# Altium integrated library Texas Instruments Power Management PWM Controller.IntLib: 1227 symbols (part 15 of 49)
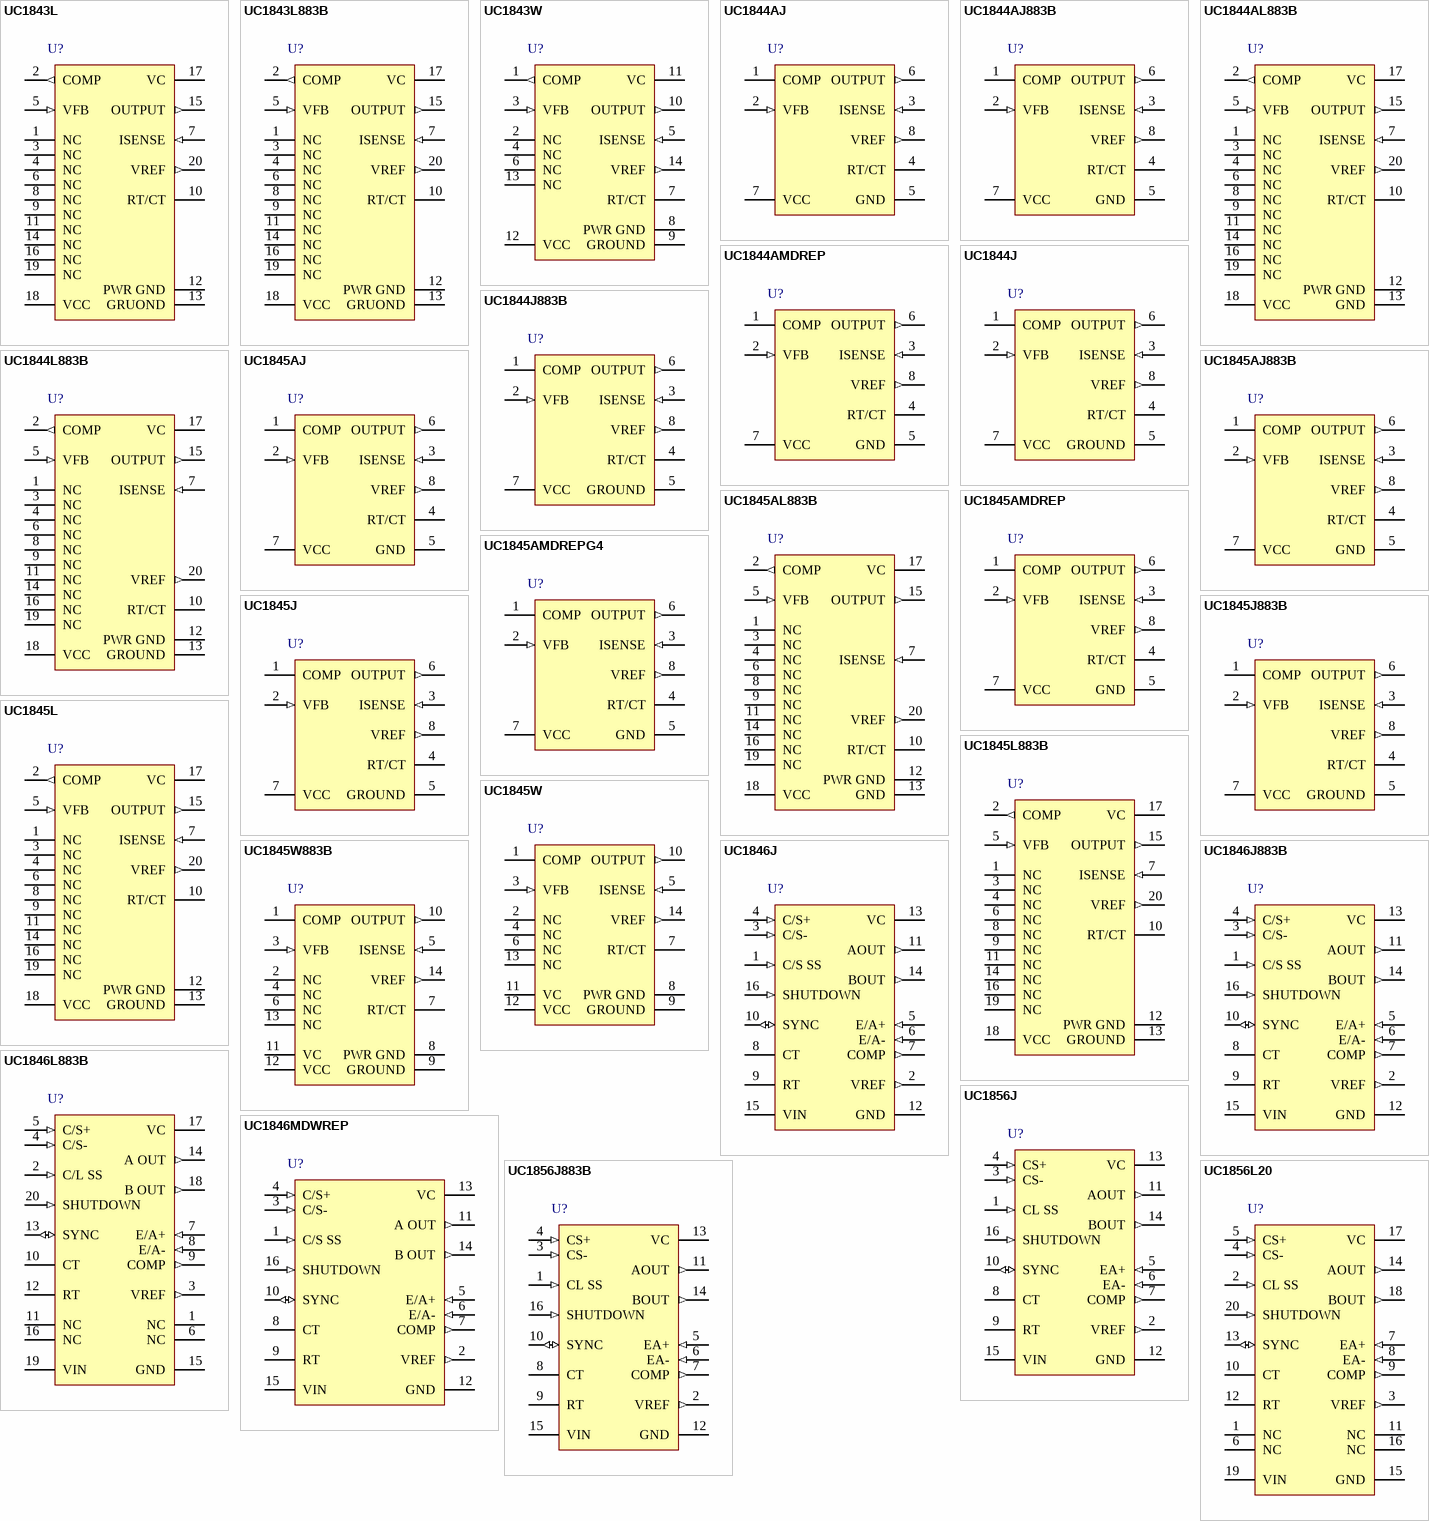
[diagram p57: symbols UC1843L to UC1856L20]

## UC1845W
designator U?
PWM Controller with Current Control, 50 % Duty Cycle, -55 to +125 degC, 14-pin CFP (W); PartNumber: UC1845W; Manufacturer: Texas Instruments; Duty Cycle(Max)(%): 50; Eco-Plan: TBD; Frequency(Max)(kHz): 450; Rating: Military; Regulated Outputs(#): 1; Topology: Boost, Flyback, Forward; UVLO Thresholds On/Off(V): 8.4/7.6; DatasheetVersion: SLUS223C; PackageVersion: revD, Jul-2003; PackageReference: W14; PackageDescription: 14-Lead Ceramic Dual Flatpack, Body 9.9 x 6.6 mm (LxW max), Pitch 1.27 mm; Control Method: Current; SubFamily: PWM Controller; Mounting Technology: Surface Mount; Code_JEDEC: MO-092AB; ComponentLink1Description: Datasheet; ComponentLink1URL: http://www.ti.com/general/docs/lit/getliterature.tsp?genericPartNumber=UC1845&fileType=pdf
footprint W14 (DFP, 14 Leads, Body 9.2x6.3mm, Pitch 1.27mm, Gullwing Leadform)
pins: 1 COMP, 2 NC, 3 VFB (in), 4 NC, 5 ISENSE (in), 6 NC, 7 RT/CT, 8 PWR GND (power), 9 GROUND (power), 10 OUTPUT (out), 11 VC (power), 12 VCC (power), 13 NC, 14 VREF (out)

## UC1845W883B
designator U?
PWM Controller with Current Control, 50 % Duty Cycle, 14-pin CFP (W); PartNumber: UC1845W883B; Manufacturer: Texas Instruments; Duty Cycle(Max)(%): 50; Eco-Plan: TBD; Frequency(Max)(kHz): 450; Rating: Military; Regulated Outputs(#): 1; Topology: Boost, Flyback, Forward; UVLO Thresholds On/Off(V): 8.4/7.6; DatasheetVersion: SLUS223C; PackageVersion: revD, Jul-2003; PackageReference: W14; PackageDescription: 14-Lead Ceramic Dual Flatpack, Body 9.9 x 6.6 mm (LxW max), Pitch 1.27 mm; Control Method: Current; SubFamily: PWM Controller; Mounting Technology: Surface Mount; Code_JEDEC: MO-092AB; ComponentLink1Description: Datasheet; ComponentLink1URL: http://www.ti.com/general/docs/lit/getliterature.tsp?genericPartNumber=UC1845&fileType=pdf
footprint W14 (DFP, 14 Leads, Body 9.2x6.3mm, Pitch 1.27mm, Gullwing Leadform)
pins: 1 COMP, 2 NC, 3 VFB (in), 4 NC, 5 ISENSE (in), 6 NC, 7 RT/CT, 8 PWR GND (power), 9 GROUND (power), 10 OUTPUT (out), 11 VC (power), 12 VCC (power), 13 NC, 14 VREF (out)

## UC1846J
designator U?
PWM Controller with Current control, 50 % Duty Cycle, -55 to +125 degC, 16-pin CDIP (J); PartNumber: UC1846J; Manufacturer: Texas Instruments; Duty Cycle(Max)(%): 50; Eco-Plan: TBD; Frequency(Max)(kHz): 450; Rating: Military; Regulated Outputs(#): 2; Topology: Boost, Flyback, Forward, Full-Bridge, Half-Bridge, Push-Pull; UVLO Thresholds On/Off(V): 7.7/6.95; DatasheetVersion: SLUS352B; PackageVersion: revF, Mar-2003; PackageReference: J16; PackageDescription: 16-Pin, Ceramic Dual In-Line Package, Row Spacing 7.62 mm, Pitch 2.54 mm; Control Method: Current; SubFamily: PWM Controller; Mounting Technology: Through Hole; ComponentLink1Description: Datasheet; ComponentLink1URL: http://www.ti.com/general/docs/lit/getliterature.tsp?genericPartNumber=UC1846&fileType=pdf
footprint J16 (DIP, 16-Leads, Row Spacing 7.62mm, Pitch 2.54mm, Body 21.3x6.9mm)
pins: 1 C/S SS (in), 2 VREF (out), 3 C/S- (in), 4 C/S+ (in), 5 E/A+ (in), 6 E/A- (in), 7 COMP (out), 8 CT, 9 RT, 10 SYNC (io), 11 AOUT (out), 12 GND (power), 13 VC (power), 14 BOUT (out), 15 VIN (power), 16 SHUTDOWN (in)

## UC1846J883B
designator U?
PWM Controller with Current control, 50 % Duty Cycle, -55 to +125 degC, 16-pin CDIP (J); PartNumber: UC1846J883B; Manufacturer: Texas Instruments; Duty Cycle(Max)(%): 50; Eco-Plan: TBD; Frequency(Max)(kHz): 450; Rating: Military; Regulated Outputs(#): 2; Topology: Boost, Flyback, Forward, Full-Bridge, Half-Bridge, Push-Pull; UVLO Thresholds On/Off(V): 7.7/6.95; DatasheetVersion: SLUS352B; PackageVersion: revF, Mar-2003; PackageReference: J16; PackageDescription: 16-Pin, Ceramic Dual In-Line Package, Row Spacing 7.62 mm, Pitch 2.54 mm; Control Method: Current; SubFamily: PWM Controller; Mounting Technology: Through Hole; ComponentLink1Description: Datasheet; ComponentLink1URL: http://www.ti.com/general/docs/lit/getliterature.tsp?genericPartNumber=UC1846&fileType=pdf
footprint J16 (DIP, 16-Leads, Row Spacing 7.62mm, Pitch 2.54mm, Body 21.3x6.9mm)
pins: 1 C/S SS (in), 2 VREF (out), 3 C/S- (in), 4 C/S+ (in), 5 E/A+ (in), 6 E/A- (in), 7 COMP (out), 8 CT, 9 RT, 10 SYNC (io), 11 AOUT (out), 12 GND (power), 13 VC (power), 14 BOUT (out), 15 VIN (power), 16 SHUTDOWN (in)

## UC1846L883B
designator U?
PWM Controller with Current control, 50 % Duty Cycle, -55 to +125 degC, 20-pin LCCC (FK); PartNumber: UC1846L883B; Manufacturer: Texas Instruments; Duty Cycle(Max)(%): 50; Eco-Plan: TBD; Frequency(Max)(kHz): 450; Rating: Military; Regulated Outputs(#): 2; Topology: Boost. Flyback, Forward, Full-Bridge, Half-Bridge, Push-Pull; UVLO Thresholds On/Off(V): 7.7/6.95; DatasheetVersion: SLUS352B; PackageVersion: revD, Jan-2011; PackageReference: FK20; PackageDescription: 20-Pin Leadless Ceramic Chip Carrier, 1.27 mm Pitch; Control Method: Current; SubFamily: PWM Controller; Mounting Technology: Surface Mount; Code_JEDEC: MS-004; ComponentLink1Description: Datasheet; ComponentLink1URL: http://www.ti.com/general/docs/lit/getliterature.tsp?genericPartNumber=UC1846&fileType=pdf
footprint FK20_N (Leadless Chip Carrier, 20-Leads, Body 8.9x8.9mm, Pitch 1.27mm, IPC Medium Density)
footprint FK20_L (Leadless Chip Carrier, 20-Leads, Body 8.9x8.9mm, Pitch 1.27mm, IPC High Density)
footprint FK20_M (Leadless Chip Carrier, 20-Leads, Body 8.9x8.9mm, Pitch 1.27mm, IPC Low Density)
pins: 1 NC, 2 C/L SS (in), 3 VREF (out), 4 C/S- (in), 5 C/S+ (in), 6 NC, 7 E/A+ (in), 8 E/A- (in), 9 COMP (out), 10 CT, 11 NC, 12 RT, 13 SYNC (io), 14 A OUT (out), 15 GND (power), 16 NC, 17 VC (power), 18 B OUT (out), 19 VIN (power), 20 SHUTDOWN (in)

## UC1846MDWREP
designator U?
Current-Mode PWM Controller with Current Control, 50 % Duty Cycle, -55 to +125 degC, 16-pin SOIC (DW), Green (RoHS & no Sb/Br); PartNumber: UC1846MDWREP; Manufacturer: Texas Instruments; Duty Cycle(Max)(%): 50; Frequency(Max)(kHz): 450; Rating: HiRel Enhanced Product; Regulated Outputs(#): 2; Topology: Boost, Flyback, Forward, Full-Bridge, Half-Bridge, Push-Pull; DatasheetVersion: SGLS329; PackageVersion: revG, Jan-2011; PackageReference: DW16; PackageDescription: 16-Pin Small Outline Integrated Circuit, 10.3 x 7.5 mm, Pitch 1.27 mm Pitch; Supplier 1: Digi-Key; Supplier Part Number 1: 296-21291-2-ND; Supplier 2: Digi-Key; Supplier Part Number 2: 296-21291-1-ND; Supplier 3: Digi-Key; Supplier Part Number 3: 296-21291-6-ND; Supplier 4: Farnell; Supplier Part Number 4: 1755518; Supplier 5: Newark; Supplier Part Number 5: 46M1390; Supplier 6: Mouser; Supplier Part Number 6: 595-UC1846MDWREP; Control Method: Current; Eco-Plan: Green (RoHS & no Sb/Br); SubFamily: PWM Controller; Mounting Technology: Surface Mount; Code_JEDEC: MS-013-AA; ComponentLink1Description: Datasheet; ComponentLink1URL: http://www.ti.com/general/docs/lit/getliterature.tsp?genericPartNumber=UC1846-EP&fileType=pdf
footprint DW16_N (SOIC, 16-Leads, Body 10.3x7.5mm, Pitch 1.27mm, IPC Medium Density)
footprint DW16_L (SOIC, 16-Leads, Body 10.3x7.5mm, Pitch 1.27mm, IPC High Density)
footprint DW16_M (SOIC, 16-Leads, Body 10.3x7.5mm, Pitch 1.27mm, IPC Low Density)
pins: 1 C/S SS (in), 2 VREF (out), 3 C/S- (in), 4 C/S+ (in), 5 E/A+ (in), 6 E/A- (in), 7 COMP (out), 8 CT, 9 RT, 10 SYNC (io), 11 A OUT (out), 12 GND (power), 13 VC (power), 14 B OUT (out), 15 VIN (power), 16 SHUTDOWN (in)

## UC1856J
designator U?
Improved PWM Controller with Current Control, 50 % Duty Cycle, -55 to +125 degC, 16-pin CDIP (J); PartNumber: UC1856J; Manufacturer: Texas Instruments; Duty Cycle(Max)(%): 50; Eco-Plan: TBD; Frequency(Max)(kHz): 1000; Rating: Military; Regulated Outputs(#): 2; Topology: Boost, Flyback, Forward, Full-Bridge, Half-Bridge, Push-Pull; DatasheetVersion: SLUS227A; PackageVersion: revF, Mar-2003; PackageReference: J16; PackageDescription: 16-Pin, Ceramic Dual In-Line Package, Row Spacing 7.62 mm, Pitch 2.54 mm; Control Method: Current; SubFamily: PWM Controller; UVLO Thresholds On/Off(V): 7.7/7; Mounting Technology: Through Hole; ComponentLink1Description: Datasheet; ComponentLink1URL: http://www.ti.com/general/docs/lit/getliterature.tsp?genericPartNumber=UC1856&fileType=pdf
footprint J16 (DIP, 16-Leads, Row Spacing 7.62mm, Pitch 2.54mm, Body 21.3x6.9mm)
pins: 1 CL SS (in), 2 VREF (out), 3 CS- (in), 4 CS+ (in), 5 EA+ (in), 6 EA- (in), 7 COMP (out), 8 CT, 9 RT, 10 SYNC (io), 11 AOUT (out), 12 GND (power), 13 VC (power), 14 BOUT (out), 15 VIN (power), 16 SHUTDOWN (in)

## UC1856J883B
designator U?
Improved PWM Controller with Current Control, 50 % Duty Cycle, -55 to +125 degC, 16-pin CDIP (J); PartNumber: UC1856J883B; Manufacturer: Texas Instruments; Duty Cycle(Max)(%): 50; Eco-Plan: TBD; Frequency(Max)(kHz): 1000; Rating: Military; Regulated Outputs(#): 2; Topology: Boost, Flyback, Forward, Full-Bridge, Half-Bridge, Push-Pull; DatasheetVersion: SLUS227A; PackageVersion: revF, Mar-2003; PackageReference: J16; PackageDescription: 16-Pin, Ceramic Dual In-Line Package, Row Spacing 7.62 mm, Pitch 2.54 mm; Control Method: Current; SubFamily: PWM Controller; UVLO Thresholds On/Off(V): 7.7/7; Mounting Technology: Through Hole; ComponentLink1Description: Datasheet; ComponentLink1URL: http://www.ti.com/general/docs/lit/getliterature.tsp?genericPartNumber=UC1856&fileType=pdf
footprint J16 (DIP, 16-Leads, Row Spacing 7.62mm, Pitch 2.54mm, Body 21.3x6.9mm)
pins: 1 CL SS (in), 2 VREF (out), 3 CS- (in), 4 CS+ (in), 5 EA+ (in), 6 EA- (in), 7 COMP (out), 8 CT, 9 RT, 10 SYNC (io), 11 AOUT (out), 12 GND (power), 13 VC (power), 14 BOUT (out), 15 VIN (power), 16 SHUTDOWN (in)

## UC1856L20
designator U?
Improved PWM Controller with Current Control, 50 % Duty Cycle, -55 to +125 degC, 20-pin LCCC (FK); PartNumber: UC1856L20; Manufacturer: Texas Instruments; Duty Cycle(Max)(%): 50; Eco-Plan: TBD; Frequency(Max)(kHz): 1000; Rating: Military; Regulated Outputs(#): 2; Topology: Boost, Flyback, Forward, Full-Bridge, Half-Bridge, Push-Pull; DatasheetVersion: SLUS227A; PackageVersion: revD, Jan-2011; PackageReference: FK20; PackageDescription: 20-Pin Leadless Ceramic Chip Carrier, 1.27 mm Pitch; Control Method: Current; SubFamily: PWM Controller; UVLO Thresholds On/Off(V): 7.7/7; Mounting Technology: Surface Mount; Code_JEDEC: MS-004; ComponentLink1Description: Datasheet; ComponentLink1URL: http://www.ti.com/general/docs/lit/getliterature.tsp?genericPartNumber=UC1856&fileType=pdf
footprint FK20_N (Leadless Chip Carrier, 20-Leads, Body 8.9x8.9mm, Pitch 1.27mm, IPC Medium Density)
footprint FK20_L (Leadless Chip Carrier, 20-Leads, Body 8.9x8.9mm, Pitch 1.27mm, IPC High Density)
footprint FK20_M (Leadless Chip Carrier, 20-Leads, Body 8.9x8.9mm, Pitch 1.27mm, IPC Low Density)
pins: 1 NC, 2 CL SS (in), 3 VREF (out), 4 CS- (in), 5 CS+ (in), 6 NC, 7 EA+ (in), 8 EA- (in), 9 COMP (out), 10 CT, 11 NC, 12 RT, 13 SYNC (io), 14 AOUT (out), 15 GND (power), 16 NC, 17 VC (power), 18 BOUT (out), 19 VIN (power), 20 SHUTDOWN (in)

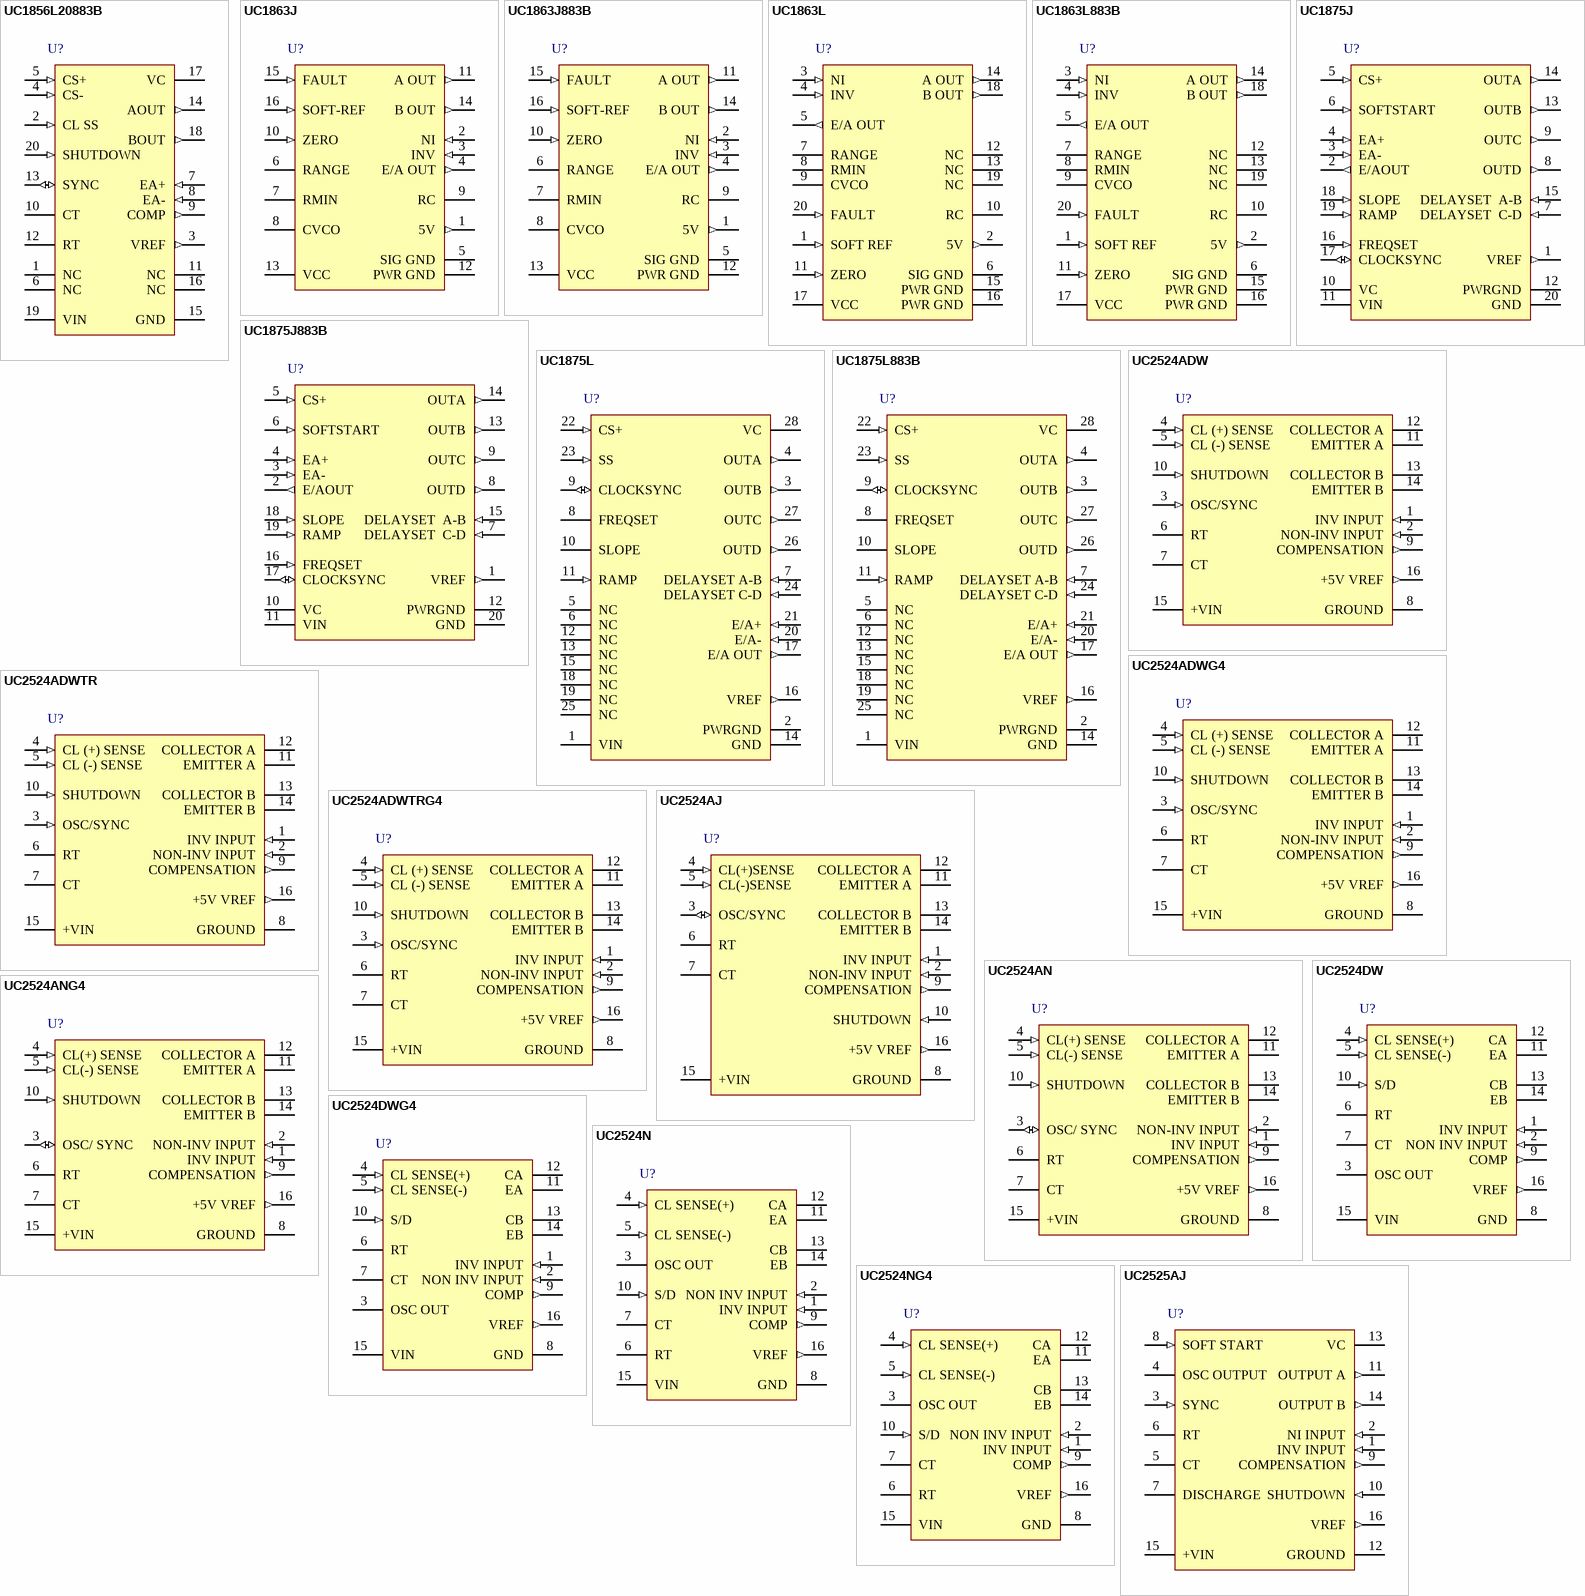
[diagram p16: symbols UC1856L20883B to UC2525AJ]

## UC1856L20883B
designator U?
Improved PWM Controller with Current Control, 50% Duty Cycle, -55 to +125 degC, 20-pin LCCC (FK); PartNumber: UC1856L20883B; Manufacturer: Texas Instruments; Duty Cycle(Max)(%): 50; Eco-Plan: TBD; Frequency(Max)(kHz): 1000; Rating: Military; Regulated Outputs(#): 2; Topology: Boost, Flyback, Forward, Full-Bridge, Half-Bridge, Push-Pull; DatasheetVersion: SLUS227A; PackageVersion: revD, Jan-2011; PackageReference: FK20; PackageDescription: 20-Pin Leadless Ceramic Chip Carrier, 1.27 mm Pitch; Control Method: Current; SubFamily: PWM Controller; UVLO Thresholds On/Off(V): 7.7/7; Mounting Technology: Surface Mount; Code_JEDEC: MS-004; ComponentLink1Description: Datasheet; ComponentLink1URL: http://www.ti.com/general/docs/lit/getliterature.tsp?genericPartNumber=UC1856&fileType=pdf
footprint FK20_N (Leadless Chip Carrier, 20-Leads, Body 8.9x8.9mm, Pitch 1.27mm, IPC Medium Density)
footprint FK20_L (Leadless Chip Carrier, 20-Leads, Body 8.9x8.9mm, Pitch 1.27mm, IPC High Density)
footprint FK20_M (Leadless Chip Carrier, 20-Leads, Body 8.9x8.9mm, Pitch 1.27mm, IPC Low Density)
pins: 1 NC, 2 CL SS (in), 3 VREF (out), 4 CS- (in), 5 CS+ (in), 6 NC, 7 EA+ (in), 8 EA- (in), 9 COMP (out), 10 CT, 11 NC, 12 RT, 13 SYNC (io), 14 AOUT (out), 15 GND (power), 16 NC, 17 VC (power), 18 BOUT (out), 19 VIN (power), 20 SHUTDOWN (in)

## UC1863J
designator U?
Resonant-Mode Power Supply Controller with Voltage Control, 50 % Duty Cycle, -55 to +125 degC, 16-pin CDIP (J); PartNumber: UC1863J; Manufacturer: Texas Instruments; Duty Cycle(Max)(%): 50; Eco-Plan: TBD; Frequency(Max)(kHz): 450; Rating: Military; Regulated Outputs(#): 2; SubFamily: PWM Controller; Topology: Full-Bridge, Half-Bridge, Push-Pull; UVLO Thresholds On/Off(V): 8/7; DatasheetVersion: SLUS289B; PackageVersion: revF, Mar-2003; PackageReference: J16; PackageDescription: 16-Pin, Ceramic Dual In-Line Package, Row Spacing 7.62 mm, Pitch 2.54 mm; Control Method: Voltage; Mounting Technology: Through Hole; ComponentLink1Description: Datasheet; ComponentLink1URL: http://www.ti.com/general/docs/lit/getliterature.tsp?genericPartNumber=UC1863&fileType=pdf
footprint J16 (DIP, 16-Leads, Row Spacing 7.62mm, Pitch 2.54mm, Body 21.3x6.9mm)
pins: 1 5V (out), 2 NI (in), 3 INV (in), 4 E/A OUT (out), 5 SIG GND (power), 6 RANGE, 7 RMIN, 8 CVCO, 9 RC, 10 ZERO (in), 11 A OUT (out), 12 PWR GND (power), 13 VCC (power), 14 B OUT (out), 15 FAULT (in), 16 SOFT-REF (in)

## UC1863J883B
designator U?
Resonant-Mode Power Supply Controller with Voltage Control, 50 % Duty Cycle, -55 to +125 degC, 16-pin CDIP (J); PartNumber: UC1863J883B; Manufacturer: Texas Instruments; Duty Cycle(Max)(%): 50; Eco-Plan: TBD; Frequency(Max)(kHz): 450; Rating: Military; Regulated Outputs(#): 2; SubFamily: PWM Controller; Topology: Full-Bridge, Half-Bridge, Push-Pull; UVLO Thresholds On/Off(V): 8/7; DatasheetVersion: SLUS289B; PackageVersion: revF, Mar-2003; PackageReference: J16; PackageDescription: 16-Pin, Ceramic Dual In-Line Package, Row Spacing 7.62 mm, Pitch 2.54 mm; Control Method: Voltage; Mounting Technology: Through Hole; ComponentLink1Description: Datasheet; ComponentLink1URL: http://www.ti.com/general/docs/lit/getliterature.tsp?genericPartNumber=UC1863&fileType=pdf
footprint J16 (DIP, 16-Leads, Row Spacing 7.62mm, Pitch 2.54mm, Body 21.3x6.9mm)
pins: 1 5V (out), 2 NI (in), 3 INV (in), 4 E/A OUT (out), 5 SIG GND (power), 6 RANGE, 7 RMIN, 8 CVCO, 9 RC, 10 ZERO (in), 11 A OUT (out), 12 PWR GND (power), 13 VCC (power), 14 B OUT (out), 15 FAULT (in), 16 SOFT-REF (in)

## UC1863L
designator U?
Resonant-Mode Power Supply Controller with Voltage Control, 50 % Duty Cycle, -55 to +125 degC, 20-pin LCCC (FK); PartNumber: UC1863L; Manufacturer: Texas Instruments; Duty Cycle(Max)(%): 50; Eco-Plan: TBD; Frequency(Max)(kHz): 450; Rating: Military; Regulated Outputs(#): 2; SubFamily: PWM Controller; Topology: Full-Bridge, Half-Bridge, Push-Pull; UVLO Thresholds On/Off(V): 8/7; DatasheetVersion: SLUS289B; PackageVersion: revD, Jan-2011; PackageReference: FK20; PackageDescription: 20-Pin Leadless Ceramic Chip Carrier, 1.27 mm Pitch; Control Method: Voltage; Mounting Technology: Surface Mount; Code_JEDEC: MS-004; ComponentLink1Description: Datasheet; ComponentLink1URL: http://www.ti.com/general/docs/lit/getliterature.tsp?genericPartNumber=UC1863&fileType=pdf
footprint FK20_N (Leadless Chip Carrier, 20-Leads, Body 8.9x8.9mm, Pitch 1.27mm, IPC Medium Density)
footprint FK20_L (Leadless Chip Carrier, 20-Leads, Body 8.9x8.9mm, Pitch 1.27mm, IPC High Density)
footprint FK20_M (Leadless Chip Carrier, 20-Leads, Body 8.9x8.9mm, Pitch 1.27mm, IPC Low Density)
pins: 1 SOFT REF (in), 2 5V (out), 3 NI (in), 4 INV (in), 5 E/A OUT (out), 6 SIG GND (power), 7 RANGE, 8 RMIN, 9 CVCO, 10 RC, 11 ZERO (in), 12 NC, 13 NC, 14 A OUT (out), 15 PWR GND (power), 16 PWR GND (power), 17 VCC (power), 18 B OUT (out), 19 NC, 20 FAULT (in)

## UC1863L883B
designator U?
Resonant-Mode Power Supply Controller with Voltage Control, 50 % Duty Cycle, -55 to +125 degC, 20-pin LCCC (FK); PartNumber: UC1863L883B; Manufacturer: Texas Instruments; Duty Cycle(Max)(%): 50; Eco-Plan: TBD; Frequency(Max)(kHz): 450; Rating: Military; Regulated Outputs(#): 2; SubFamily: PWM Controller; Topology: Full-Bridge, Half-Bridge, Push-Pull; UVLO Thresholds On/Off(V): 8/7; DatasheetVersion: SLUS289B; PackageVersion: revD, Jan-2011; PackageReference: FK20; PackageDescription: 20-Pin Leadless Ceramic Chip Carrier, 1.27 mm Pitch; Control Method: Voltage; Mounting Technology: Surface Mount; Code_JEDEC: MS-004; ComponentLink1Description: Datasheet; ComponentLink1URL: http://www.ti.com/general/docs/lit/getliterature.tsp?genericPartNumber=UC1863&fileType=pdf
footprint FK20_N (Leadless Chip Carrier, 20-Leads, Body 8.9x8.9mm, Pitch 1.27mm, IPC Medium Density)
footprint FK20_L (Leadless Chip Carrier, 20-Leads, Body 8.9x8.9mm, Pitch 1.27mm, IPC High Density)
footprint FK20_M (Leadless Chip Carrier, 20-Leads, Body 8.9x8.9mm, Pitch 1.27mm, IPC Low Density)
pins: 1 SOFT REF (in), 2 5V (out), 3 NI (in), 4 INV (in), 5 E/A OUT (out), 6 SIG GND (power), 7 RANGE, 8 RMIN, 9 CVCO, 10 RC, 11 ZERO (in), 12 NC, 13 NC, 14 A OUT (out), 15 PWR GND (power), 16 PWR GND (power), 17 VCC (power), 18 B OUT (out), 19 NC, 20 FAULT (in)

## UC1875J
designator U?
Phase Shift Resonant Controller with Current, Voltage Control, 100 % Duty Cycle, -55 to +125 degC, 20-pin CDIP (J); PartNumber: UC1875J; Manufacturer: Texas Instruments; Duty Cycle(Max)(%): 100; Eco-Plan: TBD; Frequency(Max)(kHz): 1000; Rating: Military; Regulated Outputs(#): 4; SubFamily: PWM Controller; Topology: Full-Bridge; UVLO Thresholds On/Off(V): 10/7/9.2; DatasheetVersion: SLUS229C; PackageVersion: revF, Mar-2003; PackageReference: J20; PackageDescription: 20-Pin, Ceramic Dual In-Line Package, Row Spacing 7.62 mm, Pitch 2.54 mm; Control Method: Current, Voltage; Mounting Technology: Through Hole; ComponentLink1Description: Datasheet; ComponentLink1URL: http://www.ti.com/general/docs/lit/getliterature.tsp?genericPartNumber=UC1875&fileType=pdf
footprint J20 (DIP, 20-Leads, Row Spacing 7.62mm, Pitch 2.54mm, Body 26.9x6.9mm)
pins: 1 VREF (out), 2 E/AOUT (out), 3 EA- (in), 4 EA+ (in), 5 CS+ (in), 6 SOFTSTART (in), 7 DELAYSET  C-D (in), 8 OUTD (out), 9 OUTC (out), 10 VC (power), 11 VIN (power), 12 PWRGND (power), 13 OUTB (out), 14 OUTA (out), 15 DELAYSET  A-B (in), 16 FREQSET (in), 17 CLOCKSYNC (io), 18 SLOPE (in), 19 RAMP (in), 20 GND (power)

## UC1875J883B
designator U?
Phase Shift Resonant Controller with Current, Voltage Control, 100 % Duty Cycle, -55 to +125 degC, 20-pin CDIP (J); PartNumber: UC1875J883B; Manufacturer: Texas Instruments; Duty Cycle(Max)(%): 100; Eco-Plan: TBD; Frequency(Max)(kHz): 1000; Rating: Military; Regulated Outputs(#): 4; SubFamily: PWM Controller; Topology: Full-Bridge; UVLO Thresholds On/Off(V): 10/7/9.2; DatasheetVersion: SLUS229C; PackageVersion: revF, Mar-2003; PackageReference: J20; PackageDescription: 20-Pin, Ceramic Dual In-Line Package, Row Spacing 7.62 mm, Pitch 2.54 mm; Control Method: Current, Voltage; Mounting Technology: Through Hole; ComponentLink1Description: Datasheet; ComponentLink1URL: http://www.ti.com/general/docs/lit/getliterature.tsp?genericPartNumber=UC1875&fileType=pdf
footprint J20 (DIP, 20-Leads, Row Spacing 7.62mm, Pitch 2.54mm, Body 26.9x6.9mm)
pins: 1 VREF (out), 2 E/AOUT (out), 3 EA- (in), 4 EA+ (in), 5 CS+ (in), 6 SOFTSTART (in), 7 DELAYSET  C-D (in), 8 OUTD (out), 9 OUTC (out), 10 VC (power), 11 VIN (power), 12 PWRGND (power), 13 OUTB (out), 14 OUTA (out), 15 DELAYSET  A-B (in), 16 FREQSET (in), 17 CLOCKSYNC (io), 18 SLOPE (in), 19 RAMP (in), 20 GND (power)

## UC1875L
designator U?
Phase Shift Resonant Controller with Current, Voltage Control, 100 % Duty Cycle, -55 to +125 degC, 28-pin LCCC (FK); PartNumber: UC1875L; Manufacturer: Texas Instruments; Duty Cycle(Max)(%): 100; Eco-Plan: TBD; Frequency(Max)(kHz): 1000; Rating: Military; Regulated Outputs(#): 4; SubFamily: PWM Controller; Topology: Full-Bridge; UVLO Thresholds On/Off(V): 10/7/9.2; DatasheetVersion: SLUS229C; PackageVersion: revD, Jan-2011; PackageReference: FK28; PackageDescription: 28-Pin Ceramic Leadless Chip Carrier 1.27 mm Pitch; Control Method: Current, Voltage; Mounting Technology: Surface Mount; Code_JEDEC: MS-004; ComponentLink1Description: Datasheet; ComponentLink1URL: http://www.ti.com/general/docs/lit/getliterature.tsp?genericPartNumber=UC1875&fileType=pdf
footprint FK28_N (Leadless Chip Carrier, 28-Leads, Body 11.4x11.4mm, Pitch 1.27mm, IPC Medium Density)
footprint FK28_L (Leadless Chip Carrier, 28-Leads, Body 11.4x11.4mm, Pitch 1.27mm, IPC High Density)
footprint FK28_M (Leadless Chip Carrier, 28-Leads, Body 11.4x11.4mm, Pitch 1.27mm, IPC Low Density)
pins: 1 VIN (power) "This pin supplies power to the logic and analogy circuitry on the integrated circuit that is not directly associated with driving the output stages. Connect VIN to a stable source above 12V for normal operation. To ensure (See Datasheet)", 2 PWRGND (power) "VC should be bypassed with a ceramic capacitor from the VC pin to the section of the ground plane that is connected to PWRGND. Any required bulk reservoir capacitor should parallel this one. Power ground and signal ground (See Datasheet)", 3 OUTB (out) "The output is 2A totem-pole drivers optimized for both MOSFET gates and level-shifting transformers. The outputs operate as pairs with a nominal 50% duty-cycle. The A-B pair is intended to drive one half-bridge in the (See Datasheet)", 4 OUTA (out) "The output is 2A totem-pole drivers optimized for both MOSFET gates and level-shifting transformers. The outputs operate as pairs with a nominal 50% duty-cycle. The A-B pair is intended to drive one half-bridge in the (See Datasheet)", 5 NC "No Connection", 6 NC "No Connection", 7 DELAYSET A-B (in) "The user programmed current flowing from these pins to GND set the turn-on delay for the corresponding output pair. This delay is introduced between turn-off of one switch and turn-on of another in the same leg of the bridge (See Datasheet)", 8 FREQSET "A resistor and a capacitor from FREQSET to GND will set the oscillator frequency.", 9 CLOCKSYNC (io) "Used as an output ,this pin provides a clock signal. As an input, this pin provides a synchronization point. In its simplest usage, multiple devices, each with their own local oscillator frequency, may be connected together (See Datasheet)", 10 SLOPE "A resistor from this pin to VCC will set the current used to generate the ramp. Connecting this resistor to the DC input line voltage will provide voltage feed-forward.", 11 RAMP (in) "This pin is input to the PWM comparator. Connect a capacitor from here to GND. Current mode control may be achieved with a minimum amount of external circuitry, in which case this pin provides slope compensation. Because of (See Datasheet)", 12 NC "No Connection", 13 NC "No Connection", 14 GND (power) "All voltages are measured with respect to GND. The timing capacitor, on the FREQSET pin, any bypass capacitor on the VREF pin, bypass capacitors on VIN and the ramp capacitor, on the RAMP pin, should be connected directly to (See Datasheet)", 15 NC "No Connection", 16 VREF (out) "This pin is an accurate 5V voltage reference. This output is capable of delivering about 60mA to peripheral circuitry and is internally short circuit current limited. VERF is disabled while VIN is low enough to force the (See Datasheet)", 17 E/A OUT (out) "This is the gain stage for overall feedback control. Error amplifier output voltage levels below 1 volt will force 0 phase shift. Since the error amplifier has a relatively low current drive capability, the output may be (See Datasheet)", 18 NC "No Connection", 19 NC "No Connection", 20 E/A- (in) "This is normally connected to the voltage divider resistors which sense the power supply output voltage level.", 21 E/A+ (in) "This normally connected to a reference voltage used for comparison with the sensed power supply output voltage level at the EA+ pin.", 22 CS+ (in) "The non-inverting input to the current-fault comparator whose reference is set internally to a fixed 2.5V(separate from VREF).When the voltage at this pin exceeds 2.5V the current-fault latch is set, the outputs are forced (See Datasheet)", 23 SS (in) "SOFTSTART will remain at GND as long as VIN is below the UVLO threshold. SOFTSTART will be pulled up to about 4.8V by an internal 9uA current source when VIN becomes valid(assuming a non-fault exceeding 2.5V),SOFTSTART will (See Datasheet)", 24 DELAYSET C-D (in) "The user programmed current flowing from these pins to GND set the turn-on delay for the corresponding output pair. This delay is introduced between turn-off of one switch and turn-on of another in the same leg of the bridge (See Datasheet)", 25 NC "No Connection", 26 OUTD (out) "The output is 2A totem-pole drivers optimized for both MOSFET gates and level-shifting transformers. The outputs operate as pairs with a nominal 50% duty-cycle.The C-D pair will drive the other half-bridge with switching (See Datasheet)", 27 OUTC (out) "The output is 2A totem-pole drivers optimized for both MOSFET gates and level-shifting transformers. The outputs operate as pairs with a nominal 50% duty-cycle.The C-D pair will drive the other half-bridge with switching (See Datasheet)", 28 VC (power) "This pin supplies power to the output drivers and their associated bias circuitry. Connect VC to a stable source above 3V for normal operation, above 12V for best performance. This supply should be bypassed directly to the (See Datasheet)"

## UC1875L883B
designator U?
Phase Shift Resonant Controller with Current, Voltage Control, 100 % Duty Cycle, -55 to +125 degC, 28-pin LCCC (FK); PartNumber: UC1875L883B; Manufacturer: Texas Instruments; Duty Cycle(Max)(%): 99; Eco-Plan: Green (RoHS & no Sb/Br); Frequency(Max)(kHz): 700; Rating: Catalog; Regulated Outputs(#): 1; SubFamily: PWM Controller; Topology: Boost, Flyback, Forward; UVLO Thresholds On/Off(V): 9.9/9.1; DatasheetVersion: SLUS229C; PackageVersion: revD, Jan-2011; PackageReference: FK28; PackageDescription: 28-Pin Ceramic Leadless Chip Carrier 1.27 mm Pitch; Control Method: Voltage; Mounting Technology: Surface Mount; Code_JEDEC: MS-004; ComponentLink1Description: Datasheet; ComponentLink1URL: http://www.ti.com/general/docs/lit/getliterature.tsp?genericPartNumber=UC1875&fileType=pdf
footprint FK28_N (Leadless Chip Carrier, 28-Leads, Body 11.4x11.4mm, Pitch 1.27mm, IPC Medium Density)
footprint FK28_L (Leadless Chip Carrier, 28-Leads, Body 11.4x11.4mm, Pitch 1.27mm, IPC High Density)
footprint FK28_M (Leadless Chip Carrier, 28-Leads, Body 11.4x11.4mm, Pitch 1.27mm, IPC Low Density)
pins: 1 VIN (power) "This pin supplies power to the logic and analogy circuitry on the integrated circuit that is not directly associated with driving the output stages. Connect VIN to a stable source above 12V for normal operation. To ensure (See Datasheet)", 2 PWRGND (power) "VC should be bypassed with a ceramic capacitor from the VC pin to the section of the ground plane that is connected to PWRGND. Any required bulk reservoir capacitor should parallel this one. Power ground and signal ground (See Datasheet)", 3 OUTB (out) "The output is 2A totem-pole drivers optimized for both MOSFET gates and level-shifting transformers. The outputs operate as pairs with a nominal 50% duty-cycle. The A-B pair is intended to drive one half-bridge in the (See Datasheet)", 4 OUTA (out) "The output is 2A totem-pole drivers optimized for both MOSFET gates and level-shifting transformers. The outputs operate as pairs with a nominal 50% duty-cycle. The A-B pair is intended to drive one half-bridge in the (See Datasheet)", 5 NC "No Connection", 6 NC "No Connection", 7 DELAYSET A-B (in) "The user programmed current flowing from these pins to GND set the turn-on delay for the corresponding output pair. This delay is introduced between turn-off of one switch and turn-on of another in the same leg of the bridge (See Datasheet)", 8 FREQSET "A resistor and a capacitor from FREQSET to GND will set the oscillator frequency.", 9 CLOCKSYNC (io) "Used as an output ,this pin provides a clock signal. As an input, this pin provides a synchronization point. In its simplest usage, multiple devices, each with their own local oscillator frequency, may be connected together (See Datasheet)", 10 SLOPE "A resistor from this pin to VCC will set the current used to generate the ramp. Connecting this resistor to the DC input line voltage will provide voltage feed-forward.", 11 RAMP (in) "This pin is input to the PWM comparator. Connect a capacitor from here to GND. Current mode control may be achieved with a minimum amount of external circuitry, in which case this pin provides slope compensation. Because of (See Datasheet)", 12 NC "No Connection", 13 NC "No Connection", 14 GND (power) "All voltages are measured with respect to GND. The timing capacitor, on the FREQSET pin, any bypass capacitor on the VREF pin, bypass capacitors on VIN and the ramp capacitor, on the RAMP pin, should be connected directly to (See Datasheet)", 15 NC "No Connection", 16 VREF (out) "This pin is an accurate 5V voltage reference. This output is capable of delivering about 60mA to peripheral circuitry and is internally short circuit current limited. VERF is disabled while VIN is low enough to force the (See Datasheet)", 17 E/A OUT (out) "This is the gain stage for overall feedback control. Error amplifier output voltage levels below 1 volt will force 0 phase shift. Since the error amplifier has a relatively low current drive capability, the output may be (See Datasheet)", 18 NC "No Connection", 19 NC "No Connection", 20 E/A- (in) "This is normally connected to the voltage divider resistors which sense the power supply output voltage level.", 21 E/A+ (in) "This normally connected to a reference voltage used for comparison with the sensed power supply output voltage level at the EA+ pin.", 22 CS+ (in) "The non-inverting input to the current-fault comparator whose reference is set internally to a fixed 2.5V(separate from VREF).When the voltage at this pin exceeds 2.5V the current-fault latch is set, the outputs are forced (See Datasheet)", 23 SS (in) "SOFTSTART will remain at GND as long as VIN is below the UVLO threshold. SOFTSTART will be pulled up to about 4.8V by an internal 9uA current source when VIN becomes valid(assuming a non-fault exceeding 2.5V),SOFTSTART will (See Datasheet)", 24 DELAYSET C-D (in) "The user programmed current flowing from these pins to GND set the turn-on delay for the corresponding output pair. This delay is introduced between turn-off of one switch and turn-on of another in the same leg of the bridge (See Datasheet)", 25 NC "No Connection", 26 OUTD (out) "The output is 2A totem-pole drivers optimized for both MOSFET gates and level-shifting transformers. The outputs operate as pairs with a nominal 50% duty-cycle.The C-D pair will drive the other half-bridge with switching (See Datasheet)", 27 OUTC (out) "The output is 2A totem-pole drivers optimized for both MOSFET gates and level-shifting transformers. The outputs operate as pairs with a nominal 50% duty-cycle.The C-D pair will drive the other half-bridge with switching (See Datasheet)", 28 VC (power) "This pin supplies power to the output drivers and their associated bias circuitry. Connect VC to a stable source above 3V for normal operation, above 12V for best performance. This supply should be bypassed directly to the (See Datasheet)"

## UC2524ADW
designator U?
Advanced Regulating Pulse Width Modulator with Voltage Control, 50 % Duty Cycle, -40 to +85 degC, 16-pin SOIC (DW), Green (RoHS & no Sb/Br); PartNumber: UC2524ADW; Manufacturer: Texas Instruments; Duty Cycle(Max)(%): 50; Frequency(Max)(kHz): 450; Rating: Catalog; Regulated Outputs(#): 2; SubFamily: PWM Controller; Topology: Boost, Flyback, Forward, Full-Bridge, Half-Bridge, Push-Pull; DatasheetVersion: SLUS181B; PackageVersion: revG, Jan-2011; PackageReference: DW16; PackageDescription: 16-Pin Small Outline Integrated Circuit, 10.3 x 7.5 mm, Pitch 1.27 mm Pitch; Supplier 1: Digi-Key; Supplier Part Number 1: 296-11151-5-ND; Supplier 2: Newark; Supplier Part Number 2: 77C2782; Supplier 3: Mouser; Supplier Part Number 3: 595-UC2524ADW; Control Method: Voltage; Eco-Plan: Green (RoHS & no Sb/Br); UVLO Thresholds On/Off(V): 7.5/7; Mounting Technology: Surface Mount; Code_JEDEC: MS-013-AA; ComponentLink1Description: Datasheet; ComponentLink1URL: http://www.ti.com/general/docs/lit/getliterature.tsp?genericPartNumber=UC2524A&fileType=pdf
footprint DW16_N (SOIC, 16-Leads, Body 10.3x7.5mm, Pitch 1.27mm, IPC Medium Density)
footprint DW16_L (SOIC, 16-Leads, Body 10.3x7.5mm, Pitch 1.27mm, IPC High Density)
footprint DW16_M (SOIC, 16-Leads, Body 10.3x7.5mm, Pitch 1.27mm, IPC Low Density)
pins: 1 INV INPUT (in), 2 NON-INV INPUT (in), 3 OSC/SYNC (in), 4 CL (+) SENSE (in), 5 CL (-) SENSE (in), 6 RT, 7 CT, 8 GROUND (power), 9 COMPENSATION (out), 10 SHUTDOWN (in), 11 EMITTER A, 12 COLLECTOR A, 13 COLLECTOR B, 14 EMITTER B, 15 +VIN (power), 16 +5V VREF (out)

## UC2524ADWG4
designator U?
Advanced Regulating Pulse Width Modulator with Voltage Control, 50 % Duty Cycle, -40 to +85 degC, 16-pin SOIC (DW), Green (RoHS & no Sb/Br); PartNumber: UC2524ADWG4; Manufacturer: Texas Instruments; Duty Cycle(Max)(%): 50; Frequency(Max)(kHz): 450; Rating: Catalog; Regulated Outputs(#): 2; SubFamily: PWM Controller; Topology: Boost, Flyback, Forward, Full-Bridge, Half-Bridge, Push-Pull; DatasheetVersion: SLUS181B; PackageVersion: revG, Jan-2011; PackageReference: DW16; PackageDescription: 16-Pin Small Outline Integrated Circuit, 10.3 x 7.5 mm, Pitch 1.27 mm Pitch; Supplier 1: Digi-Key; Supplier Part Number 1: UC2524ADWG4-ND; Supplier 2: Newark; Supplier Part Number 2: 63K6657; Supplier 3: Mouser; Supplier Part Number 3: 595-UC2524ADWG4; Control Method: Voltage; Eco-Plan: Green (RoHS & no Sb/Br); UVLO Thresholds On/Off(V): 7.5/7; Mounting Technology: Surface Mount; Code_JEDEC: MS-013-AA; ComponentLink1Description: Datasheet; ComponentLink1URL: http://www.ti.com/general/docs/lit/getliterature.tsp?genericPartNumber=UC2524A&fileType=pdf
footprint DW16_N (SOIC, 16-Leads, Body 10.3x7.5mm, Pitch 1.27mm, IPC Medium Density)
footprint DW16_L (SOIC, 16-Leads, Body 10.3x7.5mm, Pitch 1.27mm, IPC High Density)
footprint DW16_M (SOIC, 16-Leads, Body 10.3x7.5mm, Pitch 1.27mm, IPC Low Density)
pins: 1 INV INPUT (in), 2 NON-INV INPUT (in), 3 OSC/SYNC (in), 4 CL (+) SENSE (in), 5 CL (-) SENSE (in), 6 RT, 7 CT, 8 GROUND (power), 9 COMPENSATION (out), 10 SHUTDOWN (in), 11 EMITTER A, 12 COLLECTOR A, 13 COLLECTOR B, 14 EMITTER B, 15 +VIN (power), 16 +5V VREF (out)

## UC2524ADWTR
designator U?
Advanced Regulating Pulse Width Modulator with Voltage Control, 50 % Duty Cycle, -40 to +85 degC, 16-pin SOIC (DW), Green (RoHS & no Sb/Br); PartNumber: UC2524ADWTR; Manufacturer: Texas Instruments; Duty Cycle(Max)(%): 50; Frequency(Max)(kHz): 450; Rating: Catalog; Regulated Outputs(#): 2; SubFamily: PWM Controller; Topology: Boost, Flyback, Forward, Full-Bridge, Half-Bridge, Push-Pull; DatasheetVersion: SLUS181B; PackageVersion: revG, Jan-2011; PackageReference: DW16; PackageDescription: 16-Pin Small Outline Integrated Circuit, 10.3 x 7.5 mm, Pitch 1.27 mm Pitch; Supplier 1: Digi-Key; Supplier Part Number 1: UC2524ADWTR-ND; Supplier 2: Newark; Supplier Part Number 2: 77C2783; Supplier 3: Mouser; Supplier Part Number 3: 595-UC2524ADWTR; Control Method: Voltage; Eco-Plan: Green (RoHS & no Sb/Br); UVLO Thresholds On/Off(V): 7.5/7; Mounting Technology: Surface Mount; Code_JEDEC: MS-013-AA; ComponentLink1Description: Datasheet; ComponentLink1URL: http://www.ti.com/general/docs/lit/getliterature.tsp?genericPartNumber=UC2524A&fileType=pdf
footprint DW16_N (SOIC, 16-Leads, Body 10.3x7.5mm, Pitch 1.27mm, IPC Medium Density)
footprint DW16_L (SOIC, 16-Leads, Body 10.3x7.5mm, Pitch 1.27mm, IPC High Density)
footprint DW16_M (SOIC, 16-Leads, Body 10.3x7.5mm, Pitch 1.27mm, IPC Low Density)
pins: 1 INV INPUT (in), 2 NON-INV INPUT (in), 3 OSC/SYNC (in), 4 CL (+) SENSE (in), 5 CL (-) SENSE (in), 6 RT, 7 CT, 8 GROUND (power), 9 COMPENSATION (out), 10 SHUTDOWN (in), 11 EMITTER A, 12 COLLECTOR A, 13 COLLECTOR B, 14 EMITTER B, 15 +VIN (power), 16 +5V VREF (out)

## UC2524ADWTRG4
designator U?
Advanced Regulating Pulse Width Modulator with Voltage Control, 50 % Duty Cycle, -40 to +85 degC, 16-pin SOIC (DW), Green (RoHS & no Sb/Br); PartNumber: UC2524ADWTRG4; Manufacturer: Texas Instruments; Duty Cycle(Max)(%): 50; Frequency(Max)(kHz): 450; Rating: Catalog; Regulated Outputs(#): 2; SubFamily: PWM Controller; Topology: Boost, Flyback, Forward, Full-Bridge, Half-Bridge, Push-Pull; DatasheetVersion: SLUS181B; PackageVersion: revG, Jan-2011; PackageReference: DW16; PackageDescription: 16-Pin Small Outline Integrated Circuit, 10.3 x 7.5 mm, Pitch 1.27 mm Pitch; Supplier 1: Digi-Key; Supplier Part Number 1: UC2524ADWTRG4-ND; Supplier 2: Newark; Supplier Part Number 2: 63K6658; Supplier 3: Mouser; Supplier Part Number 3: 595-UC2524ADWTRG4; Control Method: Voltage; Eco-Plan: Green (RoHS & no Sb/Br); UVLO Thresholds On/Off(V): 7.5/7; Mounting Technology: Surface Mount; Code_JEDEC: MS-013-AA; ComponentLink1Description: Datasheet; ComponentLink1URL: http://www.ti.com/general/docs/lit/getliterature.tsp?genericPartNumber=UC2524A&fileType=pdf
footprint DW16_N (SOIC, 16-Leads, Body 10.3x7.5mm, Pitch 1.27mm, IPC Medium Density)
footprint DW16_L (SOIC, 16-Leads, Body 10.3x7.5mm, Pitch 1.27mm, IPC High Density)
footprint DW16_M (SOIC, 16-Leads, Body 10.3x7.5mm, Pitch 1.27mm, IPC Low Density)
pins: 1 INV INPUT (in), 2 NON-INV INPUT (in), 3 OSC/SYNC (in), 4 CL (+) SENSE (in), 5 CL (-) SENSE (in), 6 RT, 7 CT, 8 GROUND (power), 9 COMPENSATION (out), 10 SHUTDOWN (in), 11 EMITTER A, 12 COLLECTOR A, 13 COLLECTOR B, 14 EMITTER B, 15 +VIN (power), 16 +5V VREF (out)

## UC2524AJ
designator U?
Advanced Regulating Pulse Width Modulator with Voltage Control, 50 % Duty Cycle, -40 to +85 degC, 16-pin CDIP (J); PartNumber: UC2524AJ; Manufacturer: Texas Instruments; Duty Cycle(Max)(%): 50; Eco-Plan: TBD; Frequency(Max)(kHz): 450; Rating: Military; Regulated Outputs(#): 2; SubFamily: PWM Controller; Topology: Boost, Flyback, Forward, Full-Bridge, Half-Bridge, Push-Pull; DatasheetVersion: SLUS181B; PackageVersion: revF, Mar-2003; PackageReference: J16; PackageDescription: 16-Pin, Ceramic Dual In-Line Package, Row Spacing 7.62 mm, Pitch 2.54 mm; Control Method: Voltage; UVLO Thresholds On/Off(V): 7.5/7; Mounting Technology: Through Hole; ComponentLink1Description: Datasheet; ComponentLink1URL: http://www.ti.com/general/docs/lit/getliterature.tsp?genericPartNumber=UC2524AM&fileType=pdf
footprint J16 (DIP, 16-Leads, Row Spacing 7.62mm, Pitch 2.54mm, Body 21.3x6.9mm)
pins: 1 INV INPUT (in), 2 NON-INV INPUT (in), 3 OSC/SYNC (io), 4 CL(+)SENSE (in), 5 CL(-)SENSE (in), 6 RT, 7 CT, 8 GROUND (power), 9 COMPENSATION (out), 10 SHUTDOWN (in), 11 EMITTER A, 12 COLLECTOR A, 13 COLLECTOR B, 14 EMITTER B, 15 +VIN (power), 16 +5V VREF (out)

## UC2524AN
designator U?
Advanced Regulating Pulse Width Modulator with Voltage Control, 50 % Duty Cycle, -40 to +85 degC, 16-pin PDIP (N), Green (RoHS & no Sb/Br); PartNumber: UC2524AN; Manufacturer: Texas Instruments; Duty Cycle(Max)(%): 50; Frequency(Max)(kHz): 450; Rating: Catalog; Regulated Outputs(#): 2; SubFamily: PWM Controller; Topology: Boost, Flyback, Forward, Full-Bridge, Half-Bridge, Push-Pull; DatasheetVersion: SLUS181B; PackageVersion: revE, Dec-2002; PackageReference: N16; PackageDescription: 16-Pin Plastic Dual-In-Line Package, Row Spacing 7.62 mm, Pitch 2.54 mm; Supplier 1: Digi-Key; Supplier Part Number 1: 296-11152-5-ND; Supplier 2: Farnell; Supplier Part Number 2: 1296034; Supplier 3: Newark; Supplier Part Number 3: 77C2784; Supplier 4: Mouser; Supplier Part Number 4: 595-UC2524AN; Control Method: Voltage; Eco-Plan: Green (RoHS & no Sb/Br); UVLO Thresholds On/Off(V): 7.5/7; Mounting Technology: Through Hole; Code_JEDEC: MS-001*; ComponentLink1Description: Datasheet; ComponentLink1URL: http://www.ti.com/general/docs/lit/getliterature.tsp?genericPartNumber=UC2524A&fileType=pdf
footprint N16 (DIP, 16-Leads, Row Spacing 7.62mm, Pitch 2.54mm, Body 19.3x6.4mm)
pins: 1 INV INPUT (in), 2 NON-INV INPUT (in), 3 OSC/ SYNC (io), 4 CL(+) SENSE (in), 5 CL(-) SENSE (in), 6 RT, 7 CT, 8 GROUND (power), 9 COMPENSATION (out), 10 SHUTDOWN (in), 11 EMITTER A, 12 COLLECTOR A, 13 COLLECTOR B, 14 EMITTER B, 15 +VIN (power), 16 +5V VREF (out)

## UC2524ANG4
designator U?
Advanced Regulating Pulse Width Modulator with Voltage Control, 50 % Duty Cycle, -40 to +85 degC, 16-pin PDIP (N), Green (RoHS & no Sb/Br); PartNumber: UC2524ANG4; Manufacturer: Texas Instruments; Duty Cycle(Max)(%): 50; Frequency(Max)(kHz): 450; Rating: Catalog; Regulated Outputs(#): 2; SubFamily: PWM Controller; Topology: Boost, Flyback, Forward, Full-Bridge, Half-Bridge, Push-Pull; DatasheetVersion: SLUS181B; PackageVersion: revE, Dec-2002; PackageReference: N16; PackageDescription: 16-Pin Plastic Dual-In-Line Package, Row Spacing 7.62 mm, Pitch 2.54 mm; Supplier 1: Digi-Key; Supplier Part Number 1: UC2524ANG4-ND; Supplier 2: Farnell; Supplier Part Number 2: 1234702; Supplier 3: Newark; Supplier Part Number 3: 13M3362; Supplier 4: Newark; Supplier Part Number 4: 24K6358; Supplier 5: Mouser; Supplier Part Number 5: 595-UC2524ANG4; Control Method: Voltage; Eco-Plan: Green (RoHS & no Sb/Br); UVLO Thresholds On/Off(V): 7.5/7; Mounting Technology: Through Hole; Code_JEDEC: MS-001*; ComponentLink1Description: Datasheet; ComponentLink1URL: http://www.ti.com/general/docs/lit/getliterature.tsp?genericPartNumber=UC2524A&fileType=pdf
footprint N16 (DIP, 16-Leads, Row Spacing 7.62mm, Pitch 2.54mm, Body 19.3x6.4mm)
pins: 1 INV INPUT (in), 2 NON-INV INPUT (in), 3 OSC/ SYNC (io), 4 CL(+) SENSE (in), 5 CL(-) SENSE (in), 6 RT, 7 CT, 8 GROUND (power), 9 COMPENSATION (out), 10 SHUTDOWN (in), 11 EMITTER A, 12 COLLECTOR A, 13 COLLECTOR B, 14 EMITTER B, 15 +VIN (power), 16 +5V VREF (out)

## UC2524DW
designator U?
Advanced Regulating Pulse Width Modulator with Voltage Control, 50 % Duty Cycle, -25 to +85 degC, 16-pin SOIC (DW), Green (RoHS & no Sb/Br); PartNumber: UC2524DW; Manufacturer: Texas Instruments; Duty Cycle(Max)(%): 50; Frequency(Max)(kHz): 450; Rating: Military; Regulated Outputs(#): 2; SubFamily: PWM Controller; Topology: Boost, Flyback, Forward, Full-Bridge, Half-Bridge, Push-Pull; DatasheetVersion: SLUS180E; PackageVersion: revG, Jan-2011; PackageReference: DW16; PackageDescription: 16-Pin Small Outline Integrated Circuit, 10.3 x 7.5 mm, Pitch 1.27 mm Pitch; Supplier 1: Digi-Key; Supplier Part Number 1: 296-34702-5-ND; Supplier 2: Newark; Supplier Part Number 2: 77C2785; Supplier 3: Mouser; Supplier Part Number 3: 595-UC2524DW; Control Method: Voltage; Eco-Plan: Green (RoHS & no Sb/Br); UVLO Thresholds On/Off(V): 7.5/7; Mounting Technology: Surface Mount; Code_JEDEC: MS-013-AA; ComponentLink1Description: Datasheet; ComponentLink1URL: http://www.ti.com/general/docs/lit/getliterature.tsp?genericPartNumber=UC2524&fileType=pdf
footprint DW16_N (SOIC, 16-Leads, Body 10.3x7.5mm, Pitch 1.27mm, IPC Medium Density)
footprint DW16_L (SOIC, 16-Leads, Body 10.3x7.5mm, Pitch 1.27mm, IPC High Density)
footprint DW16_M (SOIC, 16-Leads, Body 10.3x7.5mm, Pitch 1.27mm, IPC Low Density)
pins: 1 INV INPUT (in), 2 NON INV INPUT (in), 3 OSC OUT, 4 CL SENSE(+) (in), 5 CL SENSE(-) (in), 6 RT, 7 CT, 8 GND (power), 9 COMP (out), 10 S/D (in), 11 EA, 12 CA, 13 CB, 14 EB, 15 VIN (power), 16 VREF (out)

## UC2524DWG4
designator U?
Advanced Regulating Pulse Width Modulator with Voltage Control, 50 % Duty Cycle, -25 to +85 degC, 16-pin SOIC (DW), Green (RoHS & no Sb/Br); PartNumber: UC2524DWG4; Manufacturer: Texas Instruments; Duty Cycle(Max)(%): 50; Frequency(Max)(kHz): 450; Rating: Military; Regulated Outputs(#): 2; SubFamily: PWM Controller; Topology: Boost, Flyback, Forward, Full-Bridge, Half-Bridge, Push-Pull; DatasheetVersion: SLUS180E; PackageVersion: revG, Jan-2011; PackageReference: DW16; PackageDescription: 16-Pin Small Outline Integrated Circuit, 10.3 x 7.5 mm, Pitch 1.27 mm Pitch; Supplier 1: Digi-Key; Supplier Part Number 1: UC2524DWG4-ND; Supplier 2: Newark; Supplier Part Number 2: 63K6659; Supplier 3: Mouser; Supplier Part Number 3: 595-UC2524DWG4; Control Method: Voltage; Eco-Plan: Green (RoHS & no Sb/Br); UVLO Thresholds On/Off(V): 7.5/7; Mounting Technology: Surface Mount; Code_JEDEC: MS-013-AA; ComponentLink1Description: Datasheet; ComponentLink1URL: http://www.ti.com/general/docs/lit/getliterature.tsp?genericPartNumber=UC2524&fileType=pdf
footprint DW16_N (SOIC, 16-Leads, Body 10.3x7.5mm, Pitch 1.27mm, IPC Medium Density)
footprint DW16_L (SOIC, 16-Leads, Body 10.3x7.5mm, Pitch 1.27mm, IPC High Density)
footprint DW16_M (SOIC, 16-Leads, Body 10.3x7.5mm, Pitch 1.27mm, IPC Low Density)
pins: 1 INV INPUT (in), 2 NON INV INPUT (in), 3 OSC OUT, 4 CL SENSE(+) (in), 5 CL SENSE(-) (in), 6 RT, 7 CT, 8 GND (power), 9 COMP (out), 10 S/D (in), 11 EA, 12 CA, 13 CB, 14 EB, 15 VIN (power), 16 VREF (out)

## UC2524N
designator U?
Advanced Regulating Pulse Width Modulator with Voltage Control, 50 % Duty Cycle, -25 to +85 degC, 16-pin PDIP (N), Green (RoHS & no Sb/Br); PartNumber: UC2524N; Manufacturer: Texas Instruments; Duty Cycle(Max)(%): 50; Frequency(Max)(kHz): 450; Rating: Military; Regulated Outputs(#): 2; SubFamily: PWM Controller; Topology: Boost, Flyback, Forward, Full-Bridge, Half-Bridge, Push-Pull; DatasheetVersion: SLUS180E; PackageVersion: revE, Dec-2002; PackageReference: N16; PackageDescription: 16-Pin Plastic Dual-In-Line Package, Row Spacing 7.62 mm, Pitch 2.54 mm; Supplier 1: Digi-Key; Supplier Part Number 1: UC2524N-ND; Supplier 2: Newark; Supplier Part Number 2: 77C2787; Supplier 3: Mouser; Supplier Part Number 3: 595-UC2524N; Control Method: Voltage; Eco-Plan: Green (RoHS & no Sb/Br); UVLO Thresholds On/Off(V): 7.5/7; Mounting Technology: Through Hole; Code_JEDEC: MS-001*; ComponentLink1Description: Datasheet; ComponentLink1URL: http://www.ti.com/general/docs/lit/getliterature.tsp?genericPartNumber=UC2524&fileType=pdf
footprint N16 (DIP, 16-Leads, Row Spacing 7.62mm, Pitch 2.54mm, Body 19.3x6.4mm)
pins: 1 INV INPUT (in), 2 NON INV INPUT (in), 3 OSC OUT, 4 CL SENSE(+) (in), 5 CL SENSE(-) (in), 6 RT, 7 CT, 8 GND (power), 9 COMP (out), 10 S/D (in), 11 EA, 12 CA, 13 CB, 14 EB, 15 VIN (power), 16 VREF (out)

## UC2524NG4
designator U?
Advanced Regulating Pulse Width Modulator with Voltage Control, 50 % Duty Cycle, -25 to +85 degC, 16-pin PDIP (N), Green (RoHS & no Sb/Br); PartNumber: UC2524NG4; Manufacturer: Texas Instruments; Duty Cycle(Max)(%): 50; Frequency(Max)(kHz): 450; Rating: Military; Regulated Outputs(#): 2; SubFamily: PWM Controller; Topology: Boost, Flyback, Forward, Full-Bridge, Half-Bridge, Push-Pull; DatasheetVersion: SLUS180E; PackageVersion: revE, Dec-2002; PackageReference: N16; PackageDescription: 16-Pin Plastic Dual-In-Line Package, Row Spacing 7.62 mm, Pitch 2.54 mm; Supplier 1: Digi-Key; Supplier Part Number 1: UC2524NG4-ND; Supplier 2: Newark; Supplier Part Number 2: 54K2245; Supplier 3: Mouser; Supplier Part Number 3: 595-UC2524NG4; Control Method: Voltage; Eco-Plan: Green (RoHS & no Sb/Br); UVLO Thresholds On/Off(V): 7.5/7; Mounting Technology: Through Hole; Code_JEDEC: MS-001*; ComponentLink1Description: Datasheet; ComponentLink1URL: http://www.ti.com/general/docs/lit/getliterature.tsp?genericPartNumber=UC2524&fileType=pdf
footprint N16 (DIP, 16-Leads, Row Spacing 7.62mm, Pitch 2.54mm, Body 19.3x6.4mm)
pins: 1 INV INPUT (in), 2 NON INV INPUT (in), 3 OSC OUT, 4 CL SENSE(+) (in), 5 CL SENSE(-) (in), 6 RT, 7 CT, 8 GND (power), 9 COMP (out), 10 S/D (in), 11 EA, 12 CA, 13 CB, 14 EB, 15 VIN (power), 16 VREF (out)

## UC2525AJ
designator U?
Regulating Pulse Width Modulator with Voltage Control, 50 % Duty Cycle, -25 to +85 degC, 16-pin CDIP (J); PartNumber: UC2525AJ; Manufacturer: Texas Instruments; Duty Cycle(Max)(%): 50; Eco-Plan: TBD; Frequency(Max)(kHz): 450; Rating: Military; Regulated Outputs(#): 2; SubFamily: PWM Controller; Topology: Boost, Flyback, Forward, Full-Bridge, Half-Bridge, Push-Pull; DatasheetVersion: SLUS191C; PackageVersion: revF, Mar-2003; PackageReference: J16; PackageDescription: 16-Pin, Ceramic Dual In-Line Package, Row Spacing 7.62 mm, Pitch 2.54 mm; Control Method: Voltage; UVLO Thresholds On/Off(V): 7/6.8; Mounting Technology: Through Hole; ComponentLink1Description: Datasheet; ComponentLink1URL: http://www.ti.com/general/docs/lit/getliterature.tsp?genericPartNumber=UC2525AM&fileType=pdf
footprint J16 (DIP, 16-Leads, Row Spacing 7.62mm, Pitch 2.54mm, Body 21.3x6.9mm)
pins: 1 INV INPUT (in), 2 NI INPUT (in), 3 SYNC (in), 4 OSC OUTPUT, 5 CT, 6 RT, 7 DISCHARGE (oc), 8 SOFT START (in), 9 COMPENSATION (out), 10 SHUTDOWN (in), 11 OUTPUT A (out), 12 GROUND (power), 13 VC (power), 14 OUTPUT B (out), 15 +VIN (power), 16 VREF (out)

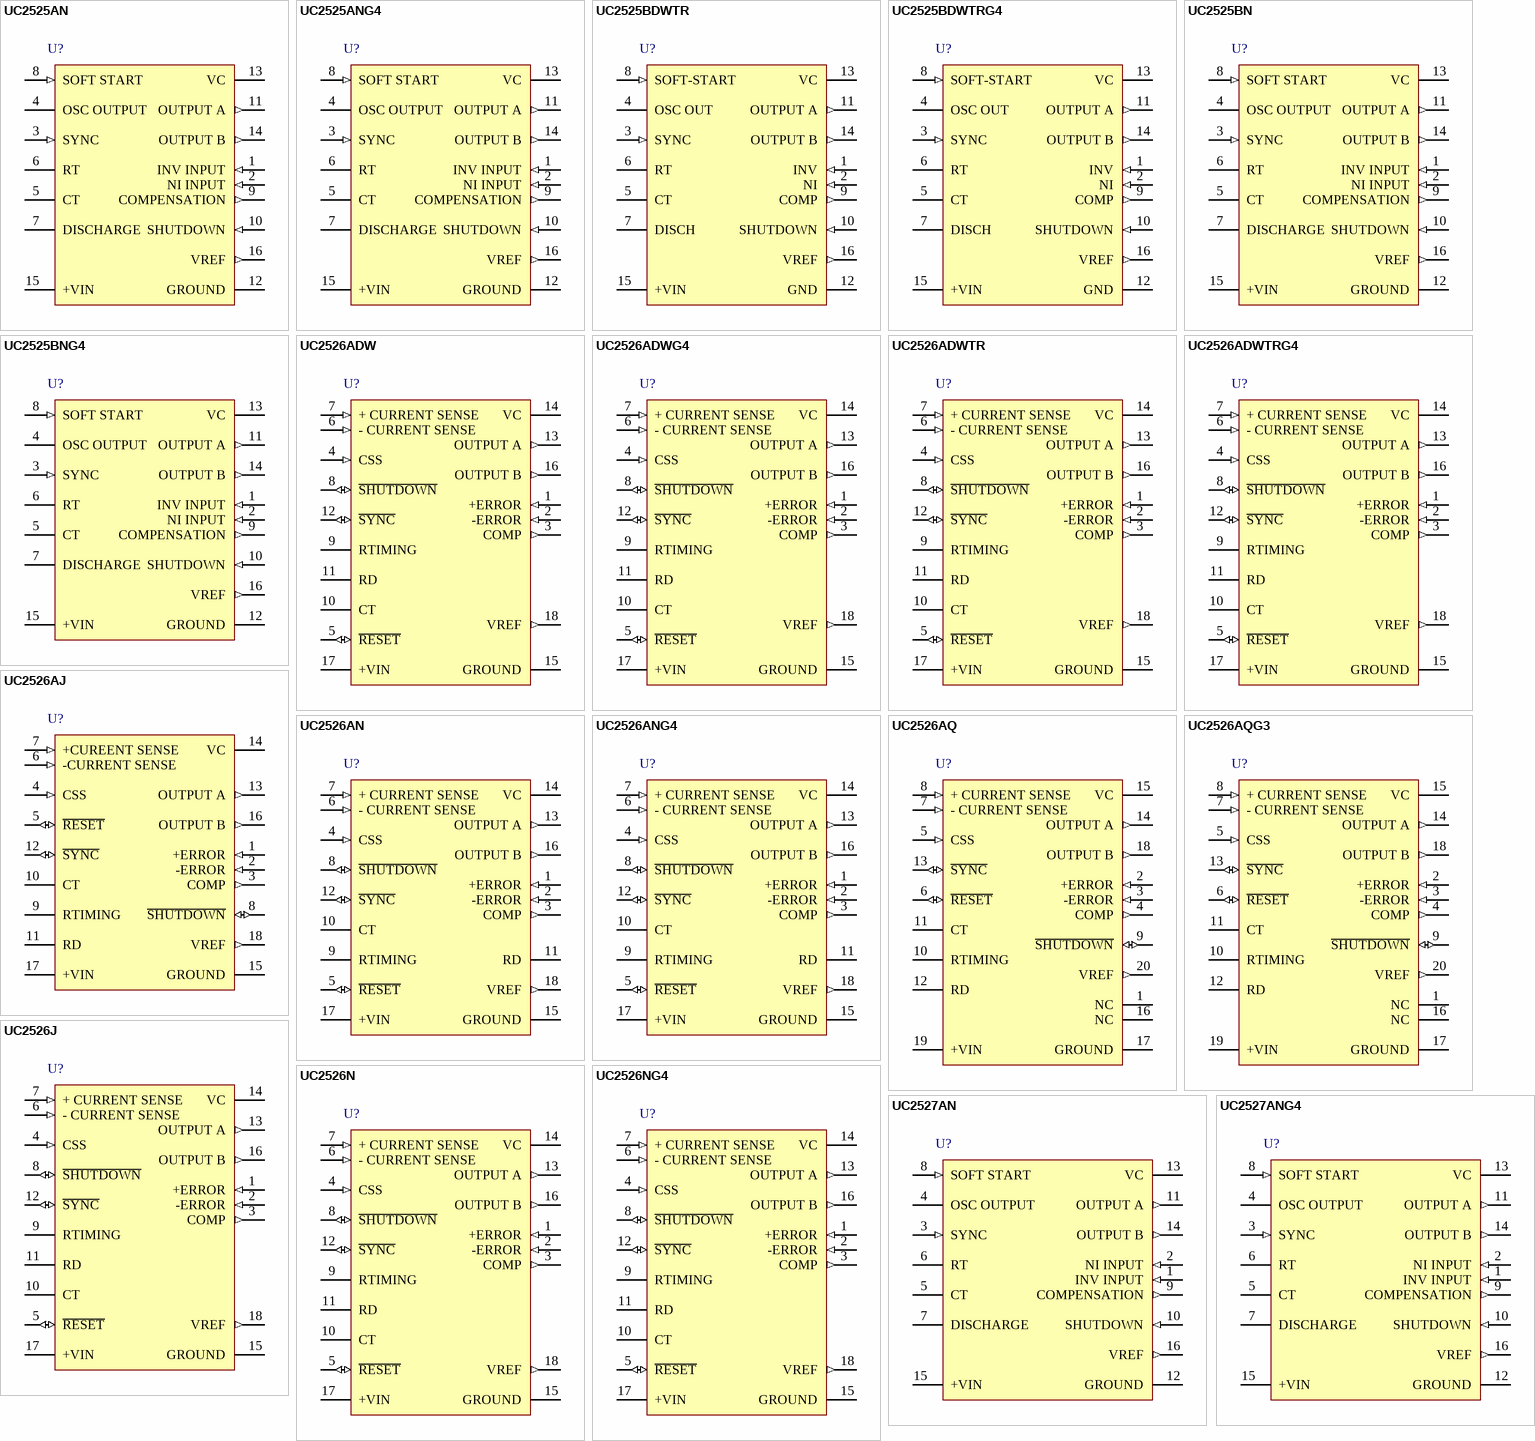
[diagram p17: symbols UC2525AN to UC2527ANG4]